# Altium schematic symbol library temperatureSensor.SchLib: 19 symbols
Pins are listed as number, name and electrical type; pins without a type are passive.

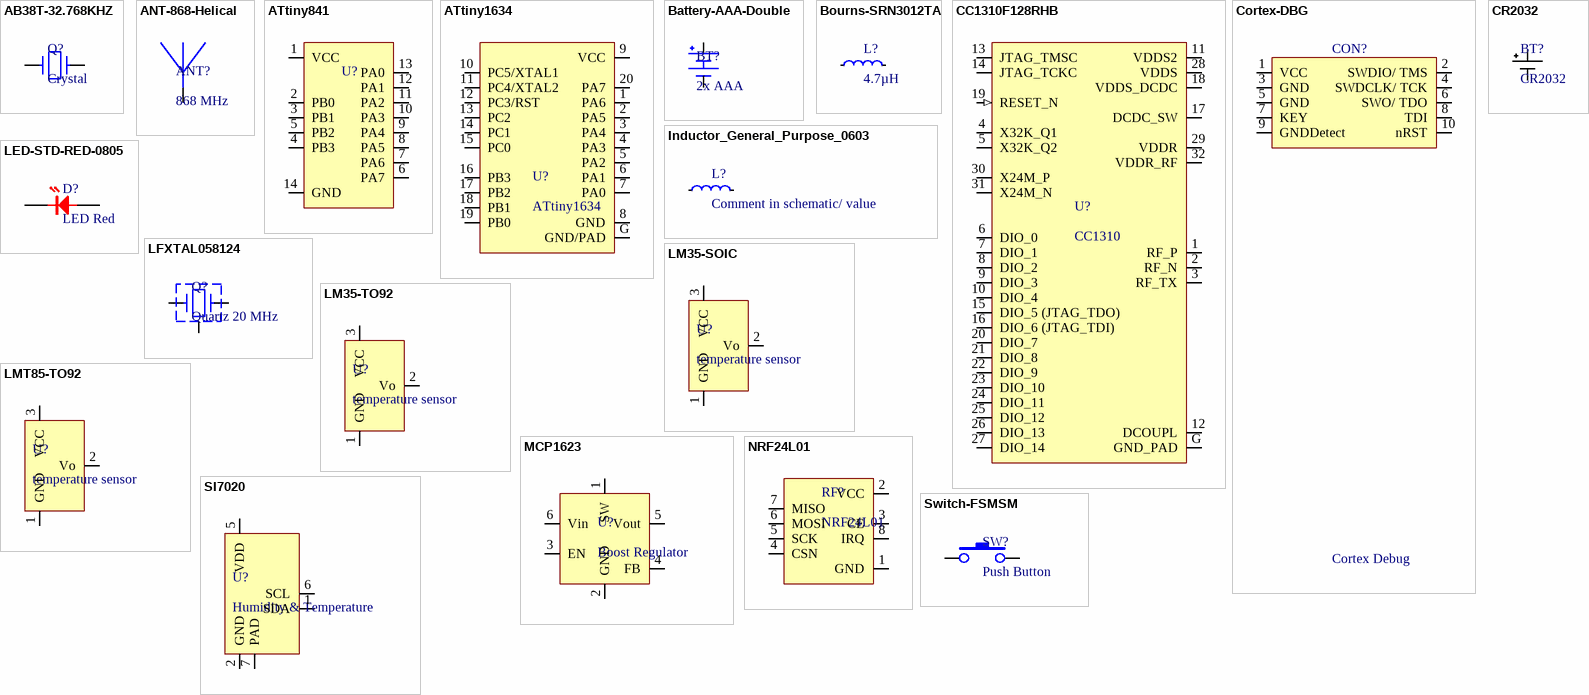
[diagram p0: symbols AB38T-32.768KHZ to Switch-FSMSM]

## AB38T-32.768KHZ
designator Q?, comment Crystal
AB38T-32.768KHZ; MID: Abracon; PID: AB38T-32.768KHZ; Supplier 1: Mouser; Supplier Part Number 1: 449-LFXTAL002996BULK
footprint AB38t
pins: 1, 2

## ANT-868-Helical
designator ANT?, comment 868 MHz  (no BOM)
868 MHz Helical PCB Antenna, see TI swra416.pdf
footprint Ant-868-Helical (868 MHz Helical PCB Antenna)
pins: 1

## ATtiny841
designator U?  (value not drawn)
8-bit AVR Microcontroller with 4/8K Bytes In-System  Programmable Flash; PID: ATtiny841-SSU/ ATtiny441-SSU; MID: Atmel
footprint ATtiny841-SOIC (SOIC, 14-Leads, Body 8,65x3,90mm, Pitch 1,27mm, IPC Low Density)
pins: 1 VCC, 2 PB0, 3 PB1, 4 PB3, 5 PB2, 6 PA7, 7 PA6, 8 PA5, 9 PA4, 10 PA3, 11 PA2, 12 PA1, 13 PA0, 14 GND

## ATtiny1634
designator U?
8-bit Atmel tinyAVR Microcontroller with  16K Bytes In-System Programmable Flash; PID: ATtiny1634-MU; MID: Atmel
footprint QFN20L4-ATtiny1634 (QFN, 20-Leads, Body 4,00x4,00mm, Pitch 0,50mm, Thermal Pad 2,60x2,60mm, IPC Low Density)
pins: 1 PA6, 2 PA5, 3 PA4, 4 PA3, 5 PA2, 6 PA1, 7 PA0, 8 GND, 9 VCC, 10 PC5/XTAL1, 11 PC4/XTAL2, 12 PC3/RST, 13 PC2, 14 PC1, 15 PC0, 16 PB3, 17 PB2, 18 PB1, 19 PB0, 20 PA7, G GND/PAD

## Battery-AAA-Double
designator BT?, comment 2x AAA
Double AAA Battery Holder; MID: Keystone; PID: 2468; Supplier 1: Mouser; Supplier Part Number 1: 534-2468
footprint Keystone-2468 (Double AAA battery holder)
pins: N -, P +

## Bourns-SRN3012TA
designator L?, comment 4.7µH
Bourns Semi-shielded Power Inductors; PID: SRN3012TA-4R7M; MID: Bourns
footprint Bourns-SRN3012TA (Semi-shielded Power Inductor)
pins: 1, 2

## CC1310F128RHB
designator U?, comment CC1310
CC1310 SimpleLink™ Ultra-Low-Power Sub-1 GHz Wireless MCU; MID: Texas Instruments; PID: CC1310F128RHB/ CC1310F64RHB/ CC1310F32RHB (different flash sizes)
footprint CC1310F128RHB-QFN32 (QFN, 32-Leads, Body 5,00x5,00mm, Pitch 0,50mm, Thermal Pad 3,45x3,45mm, IPC Low Density)
pins: 1 RF_P (io) "Positive RF input signal to LNA during RX  Positive RF output signal from PA during TX", 2 RF_N (io) "Negative RF input signal to LNA during RX  Negative RF output signal from PA during TX", 3 RF_TX (io) "Optional bias pin for the RF LNA", 4 X32K_Q1 (io) "32-kHz crystal oscillator pin 1", 5 X32K_Q2 (io) "32-kHz crystal oscillator pin 1", 6 DIO_0 (io) "GPIO, Sensor Controller", 7 DIO_1 (io) "GPIO, Sensor Controller", 8 DIO_2 (io) "GPIO, Sensor Controller, high-drive capability", 9 DIO_3 (io) "GPIO, Sensor Controller, high-drive capability", 10 DIO_4 (io) "GPIO, Sensor Controller, high-drive capability", 11 VDDS2 (power) "1.8-V to 3.8-V GPIO supply", 12 DCOUPL (power) "1.27-V regulated digital-supply decoupling(", 13 JTAG_TMSC (io) "JTAG TMSC, high-drive capability", 14 JTAG_TCKC (io) "JTAG TCKC", 15 DIO_5 (JTAG_TDO) (io) "GPIO, high-drive capability, JTAG_TDO", 16 DIO_6 (JTAG_TDI) (io) "GPIO, high-drive capability, JTAG_TDI", 17 DCDC_SW (power) "Output from internal DC-DC", 18 VDDS_DCDC (power) "1.8-V to 3.8-V DC-DC supply", 19 RESET_N (in) "input Reset, active low. No internal pullup.", 20 DIO_7 (io) "GPIO, Sensor Controller, analog", 21 DIO_8 (io) "GPIO, Sensor Controller, analog", 22 DIO_9 (io) "GPIO, Sensor Controller, analog", 23 DIO_10 (io) "GPIO, Sensor Controller, analog", 24 DIO_11 (io) "GPIO, Sensor Controller, analog", 25 DIO_12 (io) "GPIO, Sensor Controller, analog", 26 DIO_13 (io) "GPIO, Sensor Controller, analog", 27 DIO_14 (io) "GPIO, Sensor Controller, analog", 28 VDDS (power) "1.8-V to 3.8-V main chip supply", 29 VDDR (power) "1.7-V to 1.95-V supply, connect to output of internal DC-DC", 30 X24M_P (io) "24-MHz crystal oscillator pin 2", 31 X24M_N (io) "24-MHz crystal oscillator pin 1", 32 VDDR_RF (power) "1.7-V to 1.95-V supply, connect to output of internal DC-DC", G GND_PAD (power) "Ground; exposed ground pad"

## Cortex-DBG
designator CON?, comment Cortex Debug
MID: Samtec; PID: FTSH-105-01-L-DV-K
footprint cortex-dbg
pins: 1 VCC, 2 SWDIO/ TMS, 3 GND, 4 SWDCLK/ TCK, 5 GND, 6 SWO/ TDO, 7 KEY, 8 TDI, 9 GNDDetect, 10 nRST

## CR2032
designator BT?
CR2032 coin cell battery
footprint KEYSTONE-2998
pins: N -, P +

## Inductor_General_Purpose_0603
designator L?, comment Comment in schematic/ value
General purpose 0603 inductor; MID: Place here; PID: Place here; Sch_Comment: Comment in schematic/ value
footprint 0603_N (0603 normal hand soldering size)
pins: 1, 2

## LED-STD-RED-0805
designator D?, comment LED Red
Standard LED Red 0805; MID: std; PID: std
footprint 0805_LED (0805 normal hand soldering size)
pins: A, K

## LFXTAL058124
designator Q?, comment Quartz 20 MHz
Standard 3.2 x 2.5mm SMD crystal in a ceramic package with a  seam sealed metal lid, hermetically sealed.; MID: IQD Frequency Products; PID: LFXTAL058124
footprint LFXTAL058124 (Crystal SMD 3.2x2.5mm)
pins: G GND, Q1, Q2

## LM35-SOIC
designator U?, comment temperature sensor
Precision Centigrade Temperature Sensors; MID: Texas Instruments; PID: LM35DM
footprint LM35-SOIC8 (SOIC, 8-Leads, Body 4,90x3,90mm, Pitch 1,27mm, IPC Low Density)
pins: 1 GND, 2 Vo, 3 VCC

## LM35-TO92
designator U?, comment temperature sensor
Precision Centigrade Temperature Sensors; MID: Texas Instruments; PID: LM35CAZ/CZ/DZ
footprint LM35-TO92 (TO92 Package)
pins: 1 GND, 2 Vo, 3 VCC

## LMT85-TO92
designator U?, comment temperature sensor
Analog Temperature Sensors with Class-AB Output; MID: Texas Instruments; PID: LMT85LP
footprint LMT85-TO92 (TO92 Package)
pins: 1 GND, 2 Vo, 3 VCC

## MCP1623
designator U?, comment Boost Regulator
Low-Voltage Input Boost Regulator; MID: Microchip; PID: MCP1623(T)-I/CH
footprint MCP1623-SOT23 (SOT23, 6-Leads, Body 2,90x2,70mm, Pitch 0,95mm, IPC Low Density)
pins: 1 SW, 2 GND, 3 EN, 4 FB, 5 Vout, 6 Vin

## NRF24L01
designator RF?
2.4GHz RF module; MID: Seedstudio; PID: NRF24L01 module
footprint NRF24L01 (RF module)
pins: 1 GND, 2 VCC, 3 CE, 4 CSN, 5 SCK, 6 MOSI, 7 MISO, 8 IRQ

## SI7020
designator U?, comment Humidity & Temperature
I2C HUMIDITY AND TEMPERATURE SENSOR; MID: Silicon Labs; PID: SI7020
footprint SI7020-DFN6 (SON, 6-Leads, Body 3,00x3,00mm, Pitch 1,00mm, Thermal Pad 2,40x1,50mm, IPC Low Density)
pins: 1 SDA, 2 GND, 5 VDD, 6 SCL, 7 PAD

## Switch-FSMSM
designator SW?, comment Push Button
Taster, Nicht beleuchtet, 24 V, 50 mA, 180 gf, Baureihe FSMSM, AlcoSwitch; MID: TE Connectivity; PID: FSMSM; Farnell_ID: 1703878
footprint FSMSM
pins: 1 NO1A, 2 NO2A